# EAGLE library part HY2213 (library drag-semiconductors)
Balance Charging IC
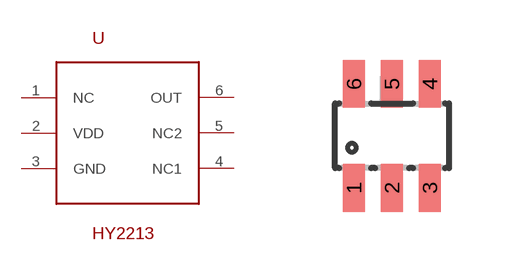
[diagram p6: symbol with the pads of SOT23-6; footprint SOT23-6]

Designator prefix U

## HY2213  [SOT23-6]
1  NC
2  VDD
3  GND
4  NC1
5  NC2
6  OUT

## Footprint SOT23-6 (pad centres in mm)
smd 0.55 x 1.2: 1 -0.95,-1.3; 2 0,-1.3; 3 0.95,-1.3; 4 0.95,1.3; 5 0,1.3; 6 -0.95,1.3